# EAGLE library part ATMEGA32U4 (library MF_IC_Digital)
Manufacturer Part #: ATMEGA32U4 Manufacturer: Atmel Description: 8-bit Microcontrollers - MCU AVR USB 32K FLASH INDUSTRIAL
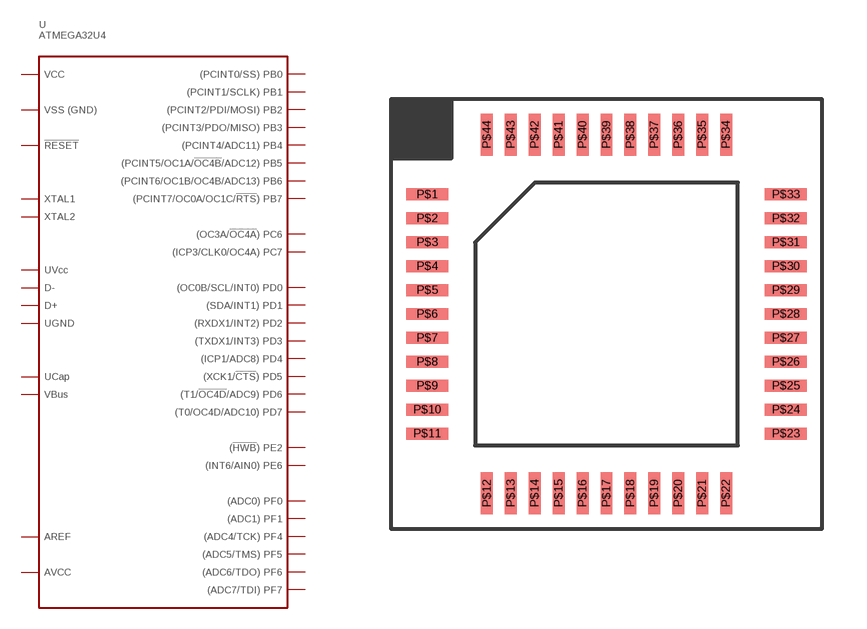
[diagram p1: symbol with the pads of TQFP44; footprint TQFP44]

Designator prefix U

## ATMEGA32U4-AU (HOUSEPART: NO; MPN: ATMEGA32U4-AU; POPULATE: 1; URL: http://www.atmel.com/devices/atmega32u4.aspx; VALUE: ATMEGA32U4-AU)  [TQFP44]
P$1  PE6
P$2  UVCC  pwr
P$3  D-
P$4  D+
P$5  UGND  pwr
P$6  UCAP  pwr
P$7  VBUS  pwr
P$8  PB0
P$9  PB1
P$10  PB2
P$11  PB3
P$12  PB7
P$13  !RESET
P$14  VCC  pwr
P$15  GND  pwr
P$16  XTAL2
P$17  XTAL1
P$18  PD0
P$19  PD1
P$20  PD2
P$21  PD3
P$22  PD5
P$23  GND  pwr
P$24  AVCC  pwr
P$25  PD4
P$26  PD6
P$27  PD7
P$28  PB4
P$29  PB5
P$30  PB6
P$31  PC6
P$32  PC7
P$33  PE2
P$34  VCC  pwr
P$35  GND  pwr
P$36  PF7
P$37  PF6
P$38  PF5
P$39  PF4
P$40  PF1
P$41  PF0
P$42  AREF  pwr
P$43  GND  pwr
P$44  AVCC  pwr

## Footprint TQFP44 (pad centres in mm)
Description: Standard TQFP-44 Package.
smd 1.4 x 0.4: P$1 -6,4; P$2 -6,3.2; P$3 -6,2.4; P$4 -6,1.6; P$5 -6,0.8; P$6 -6,0; P$7 -6,-0.8; P$8 -6,-1.6; P$9 -6,-2.4; P$10 -6,-3.2; P$11 -6,-4; P$23 6,-4; P$24 6,-3.2; P$25 6,-2.4; P$26 6,-1.6; P$27 6,-0.8; P$28 6,0; P$29 6,0.8; P$30 6,1.6; P$31 6,2.4; P$32 6,3.2; P$33 6,4
smd 0.4 x 1.4: P$12 -4,-6; P$13 -3.2,-6; P$14 -2.4,-6; P$15 -1.6,-6; P$16 -0.8,-6; P$17 0,-6; P$18 0.8,-6; P$19 1.6,-6; P$20 2.4,-6; P$21 3.2,-6; P$22 4,-6; P$34 4,6; P$35 3.2,6; P$36 2.4,6; P$37 1.6,6; P$38 0.8,6; P$39 0,6; P$40 -0.8,6; P$41 -1.6,6; P$42 -2.4,6; P$43 -3.2,6; P$44 -4,6